# Altium schematic symbol library SCH - SENSOR - CURRENT - TALEMA AC1xxx.SCHLIB: 1 symbol
Pins are listed as number, name and electrical type; pins without a type are passive.

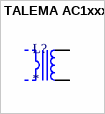
[diagram p0: symbol TALEMA AC1xxx]

## TALEMA AC1xxx
designator L?
pins: 1, 2